# Altium footprint library IC_IC-DP_SOT23-6L.PcbLib: 1 footprints
Each footprint in its own frame and in the unit in brackets; x right, y up, seen from the top. Pads: shape width x height; smd on the part's side, far side on the other; paste and mask are expansions set on the pad; w line width, h text height; cw(c..) or ccw(c..) is an arc to the next point about the centre after c.
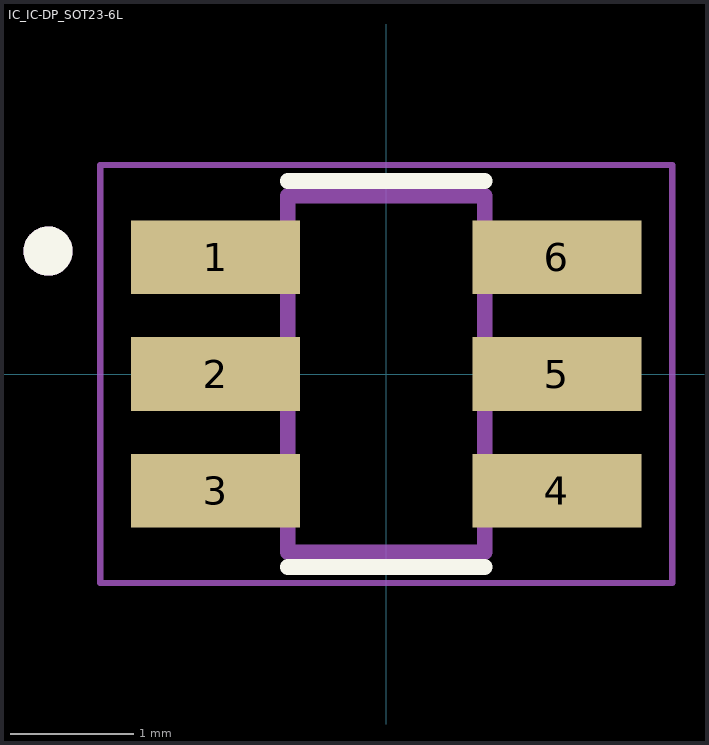
[diagram p0: the footprint, top view; thin cyan lines are the x and y axes]

## IC_IC-DP_SOT23-6L [mm]
pads (6):
  rect 1.375x0.6 smd: 1(-1.389,0.95) 2(-1.389,0) 3(-1.389,-0.95) 4(1.389,-0.95) 5(1.389,0) 6(1.389,0.95)
Top Overlay:
  circle w0.2: c-2.75,1 r0.1
  lines w0.127: -0.8,-1.57 0.8,-1.57 ; -0.8,1.57 0.8,1.57
Mechanical 13:
  circle w0.2: c-2.75,1 r0.1
  lines w0.127: -0.8,-1.45 -0.8,1.45 0.8,1.45 0.8,-1.45 -0.8,-1.45
Mechanical 15:
  lines w0.05: -2.326,-1.7 2.326,-1.7 2.326,1.7 -2.326,1.7 -2.326,-1.7